# Altium schematic symbol library Integrated circuits.SchLib: 32 symbols (part 1 of 2)
Pins are listed as number, name and electrical type; pins without a type are passive.

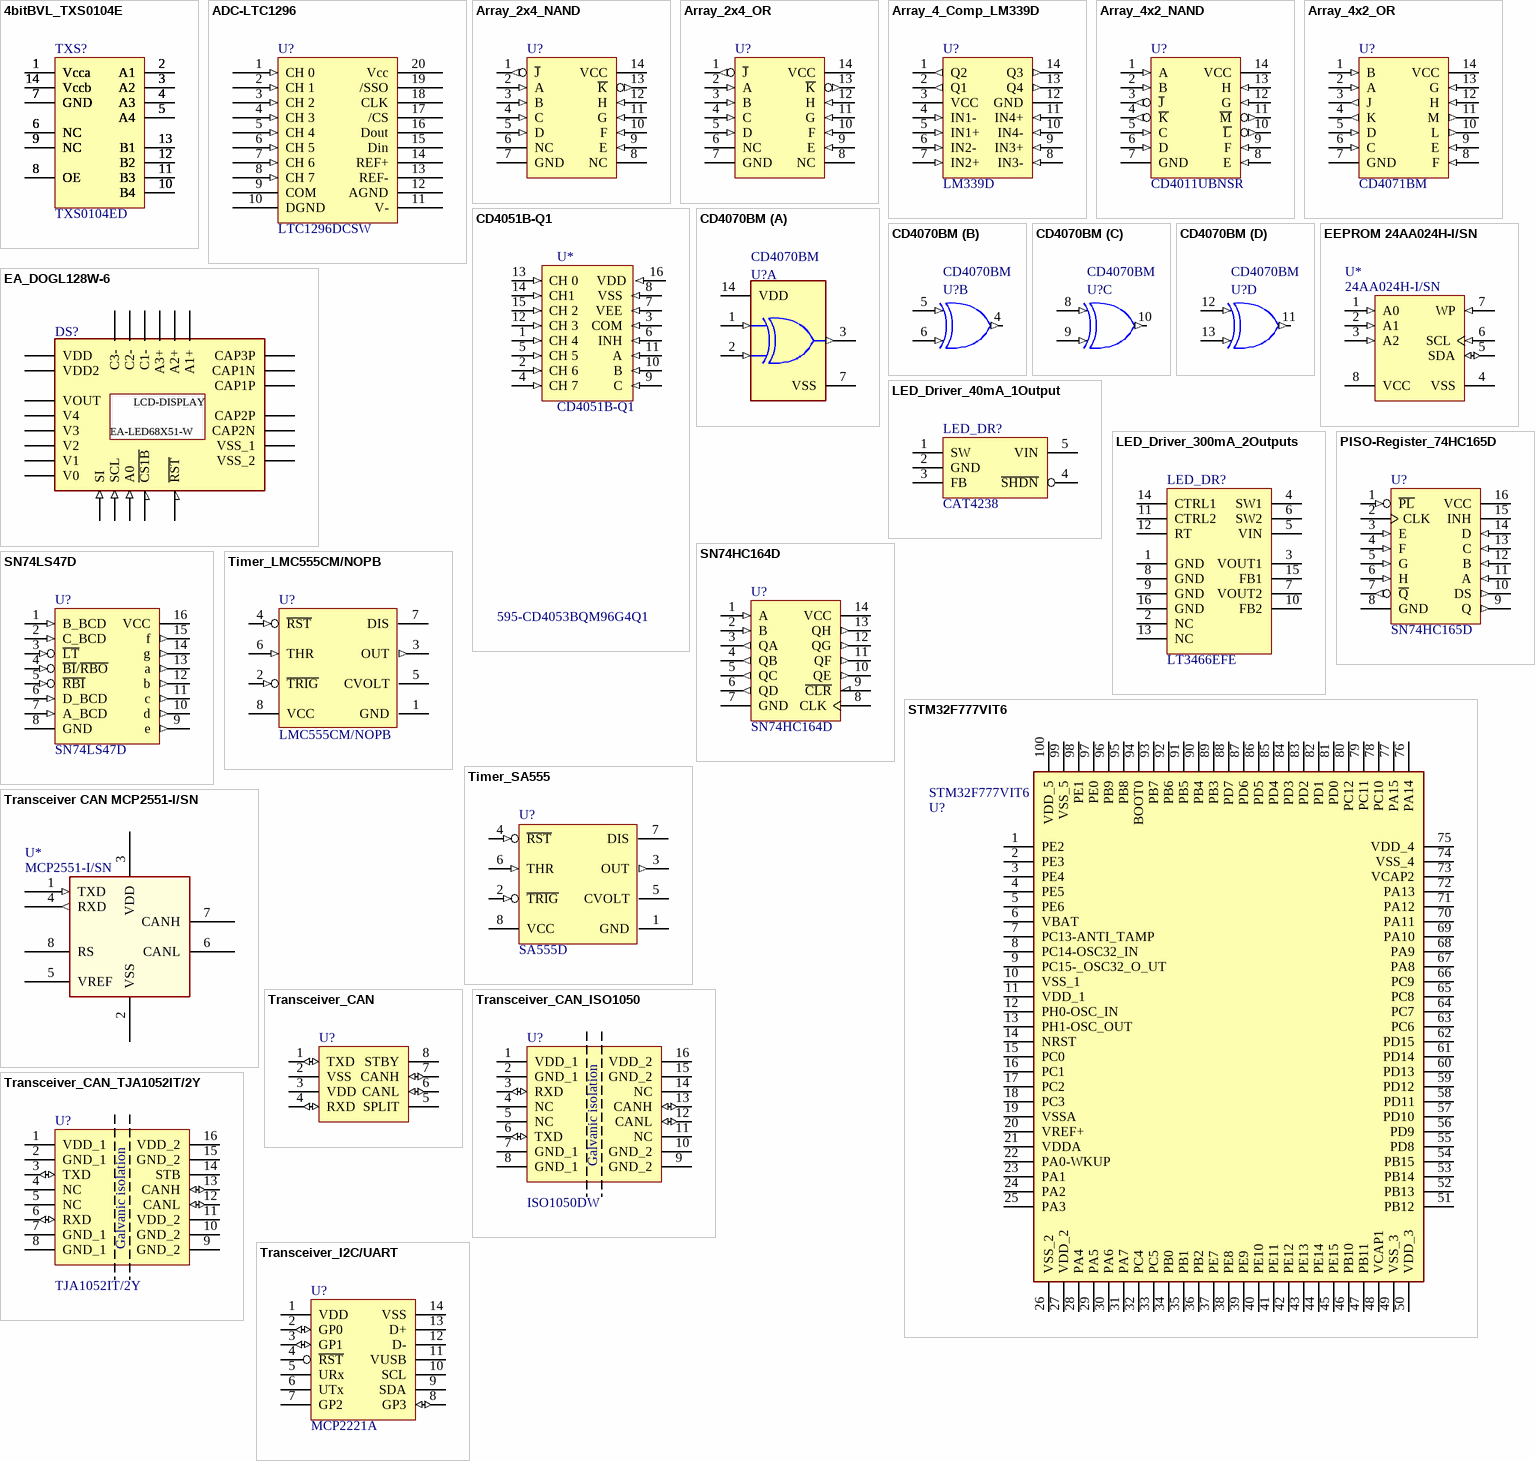
[diagram p0: symbols 4bitBVL_TXS0104E to Transceiver_I2C/UART]

## 4bitBVL_TXS0104E
designator TXS?, comment Manufacturer Part Number 1: TXS0104ED  (hidden comment: TXS0104E)
4-Bit Bidirectional Voltage-Level Shifter for Open-Drain and Push-Pull Applications 14-SOIC -40 to 85; Manufacturer 1: Texas Instruments; Data Rate: 24Mbps; Number of Channels: 4; Propagation Delay: 260ns; Min Supply Voltage: 1.65V; Max Supply Voltage: 5.5V; Logic Function: Translator; High Level Output Current: -20uA; Low Level Output Current: 1mA; Quiescent Current: 14.4uA; Nominal Supply Current: 12uA; Number of Circuits: 1; .Creator: AC; Supplier 1: Digi-Key; RoHS: Yes; Category: Voltage Level Shifters; Stock 1: 9570; Pricing 1: 1=1,54000, 10=1,37600, 25=1,30600, 100=1,07270, 250=1,00276, 500=0,88616, 1000=0,77000 (USD); Mount: Surface Mount; Case/Package: SOIC; Number of Pins: 14; Weight: 0.004564oz; Min Operating Temperature: -40°C; Max Operating Temperature: 85°C; Packaging: Rail/Tube; Package Quantity: 50; Number of Bits: 4; Turn-On Delay Time: 260ns; Output Type: Voltage; Series: -; Number of Inputs: 4; Output Current: 1mA; Length: 8.65mm; Width: 3.91mm; Height: 1.58mm; Radiation Hardening: No; Lead Free: Lead Free; RoHS Compliant: Yes; REACH SVHC: No SVHC; ComponentLink1URL: https://datasheet.ciiva.com/1628/txs0104e-1628720.pdf?src-supplier=Newark; ComponentLink1Description: https://datasheet.ciiva.com/1628/txs0104e-1628720.pdf?src-supplier=Newark; ComponentLink2URL: https://datasheet.ciiva.com/15096/getdatasheetpartid-226007-15096240.pdf?src-supplier=Verical; ComponentLink2Description: https://datasheet.ciiva.com/15096/getdatasheetpartid-226007-15096240.pdf?src-supplier=Verical; ComponentLink3URL: https://datasheet.ciiva.com/41455/001017332-da-01-en-ic-4bit-transltr-txs0104ed-soic-14-tid-41455684.pdf?src-supplier=Conrad; ComponentLink3Description: https://datasheet.ciiva.com/41455/001017332-da-01-en-ic-4bit-transltr-txs0104ed-soic-14-tid-41455684.pdf?src-supplier=Conrad; ComponentLink4URL: https://datasheet.ciiva.com/1508/1811230-1508823.pdf?src-supplier=Element14; ComponentLink4Description: https://datasheet.ciiva.com/1508/1811230-1508823.pdf?src-supplier=Element14; ComponentLink5URL: https://datasheet.ciiva.com/6615/txs0104e-6615001.pdf?src-supplier=Digi-Key; ComponentLink5Description: https://datasheet.ciiva.com/6615/txs0104e-6615001.pdf?src-supplier=Digi-Key; Supplier Part Number 1: 296-34699-5-ND; ComponentLink6Description: RS uk; ComponentLink6URL: https://uk.rs-online.com/web/p/translator-ics/9236848; .PCBcheck: *; .SCHcheck: *
footprint 4bitBVL_TXS0104E (SOP, 14-Leads, Body 8,65x3,90mm, Pitch 1,27mm, IPC Medium Density)
pins: 1 Vcca, 1 Vcca, 1 Vcca, 1 Vcca, 1 Vcca, 1 Vcca, 1 Vcca, 1 Vcca, 2 A1, 2 A1, 2 A1, 2 A1, 2 A1, 2 A1, 2 A1, 2 A1, 3 A2, 3 A2, 3 A2, 3 A2, 3 A2, 3 A2, 3 A2, 3 A2, 4 A3, 4 A3, 4 A3, 4 A3, 4 A3, 4 A3, 4 A3, 4 A3, 5 A4, 5 A4, 5 A4, 5 A4, 5 A4, 5 A4, 5 A4, 5 A4, 6 NC, 6 NC, 6 NC, 6 NC, 6 NC, 6 NC, 6 NC, 6 NC, 7 GND, 7 GND, 7 GND, 7 GND, 7 GND, 7 GND, 7 GND, 7 GND, 8 OE, 8 OE, 8 OE, 8 OE, 8 OE, 8 OE, 8 OE, 8 OE, 9 NC, 9 NC, 9 NC, 9 NC, 9 NC, 9 NC, 9 NC, 9 NC, 10 B4, 10 B4, 10 B4, 10 B4, 10 B4, 10 B4, 10 B4, 10 B4, 11 B3, 11 B3, 11 B3, 11 B3, 11 B3, 11 B3, 11 B3, 11 B3, 12 B2, 12 B2, 12 B2, 12 B2, 12 B2, 12 B2, 12 B2, 12 B2, 13 B1, 13 B1, 13 B1, 13 B1, 13 B1, 13 B1, 13 B1, 13 B1, 14 Vccb, 14 Vccb, 14 Vccb, 14 Vccb, 14 Vccb, 14 Vccb, 14 Vccb, 14 Vccb

## ADC-LTC1296
designator U?, comment Manufacturer Part Number 1: LTC1296DCSW  (hidden comment: LTC1296)
8-Channel Single ADC SAR 46.5ksps 12-bit Serial 20-Pin SOIC W; Manufacturer 1: Analog Devices / Linear Technology; Interface: Serial,Parallel; Sampling Rate: 46500S/s; Resolution: 12b; Supply Type: Dual; Number of Bits: 12; Max Supply Voltage: 12V; Dual Supply Voltage: 5V; Number of Elements: 1; Polarity: Bipolar,Unipolar; Power Dissipation: 500mW; Integral Nonlinearity (INL): 0.75LSB; .Creator: DR; ComponentLink1Description: Datasheet; ComponentLink2Description: Where buy it; Supplier 1: Newark; RoHS: No; Category: Analog to Digital Converters (ADCs); Mount: Surface Mount; Case/Package: SOIC; Number of Pins: 20; Min Operating Temperature: 0°C; Max Operating Temperature: 70°C; Package Quantity: 38; Packaging: Rail/Tube; Operating Supply Voltage: 5V; Lead Free: Contains Lead; RoHS Compliant: No; ComponentLink3URL: https://datasheet.ciiva.com/1250/3526-1250235.pdf?src-supplier=Digi-Key; ComponentLink3Description: https://datasheet.ciiva.com/1250/3526-1250235.pdf?src-supplier=Digi-Key; Supplier Part Number 1: 56M0212
footprint ADC_LTC1296 (SOIC, 20-Leads, Body 13,30x7,49mm, Pitch 1,27mm, IPC Medium Density)
pins: 1 CH 0 (in), 2 CH 1 (in), 3 CH 2 (in), 4 CH 3 (in), 5 CH 4 (in), 6 CH 5 (in), 7 CH 6 (in), 8 CH 7 (in), 9 COM, 10 DGND, 11 V-, 12 AGND, 13 REF-, 14 REF+, 15 Din, 16 Dout, 17 /CS, 18 CLK, 19 /SSO, 20 Vcc

## Array_2x4_NAND
designator U?, comment CD4012BM96  (value not drawn)
2-ch, 4-input, 3-V to 18-V NAND gates 14-SOIC -55 to 125; Manufacturer 1: Texas Instruments; Output Current: 6.8mA; Number of Inputs: 4; Propagation Delay: 90ns; Number of Elements: 2; Max Supply Voltage: 18V; Min Supply Voltage: 3V; Number of Outputs: 1; Quiescent Current: 5uA; High Level Output Current: 3.4mA; Turn-On Delay Time: 250ns; Schmitt Trigger Input: No; Supplier 1: Digi-Key; Manufacturer Part Number 1: CD4012BM96; RoHS: Yes; Category: Logic Gates; Stock 1: 5313; Pricing 1: 1=0,66000, 10=0,56800, 25=0,53040, 100=0,42440, 250=0,39412, 500=0,33348, 1000=0,25769 (USD); Mount: Surface Mount; Case/Package: SOIC; Number of Pins: 14; Weight: 0.004564oz; Contact Plating: Gold; Min Operating Temperature: -55°C; Max Operating Temperature: 125°C; Packaging: Tape and Reel; Package Quantity: 1; Logic Function: NAND GATE; Number of Circuits: 2; Low Level Output Current: 3.4mA; Number of Gates: 2; Number of Input Lines: 4; Number of Output Lines: 1; Number of Bits: 2; Series: 4000B; Technology: CMOS; Length: 8.65mm; Width: 3.91mm; Height: 1.58mm; Radiation Hardening: No; Lead Free: Lead Free; RoHS Compliant: Yes; Reach SVHC Compliant: Yes; ComponentLink1URL: https://datasheet.ciiva.com/1865/cd4011b-1865256.pdf?src-supplier=Digi-Key; ComponentLink1Description: https://datasheet.ciiva.com/1865/cd4011b-1865256.pdf?src-supplier=Digi-Key; ComponentLink2URL: https://datasheet.ciiva.com/1865/cd4011b-1865255.pdf?src-supplier=Digi-Key; ComponentLink2Description: https://datasheet.ciiva.com/1865/cd4011b-1865255.pdf?src-supplier=Digi-Key; ComponentLink3URL: https://datasheet.ciiva.com/1865/cd4011b-1865257.pdf?src-supplier=Digi-Key; ComponentLink3Description: https://datasheet.ciiva.com/1865/cd4011b-1865257.pdf?src-supplier=Digi-Key; ComponentLink4URL: https://datasheet.ciiva.com/14307/cd4023b-14307967.pdf?src-supplier=Avnet; ComponentLink4Description: https://datasheet.ciiva.com/14307/cd4023b-14307967.pdf?src-supplier=Avnet; Supplier Part Number 1: 296-14246-1-ND
footprint ARRAY_4_NAND (SOIC, 14-Leads, Body 8,65x3,90mm, Pitch 1,27mm, IPC Medium Density)
pins: 1 ~{J} (out), 2 A (in), 3 B (in), 4 C (in), 5 D (in), 6 NC, 7 GND (power), 8 NC, 9 E (in), 10 F (in), 11 G (in), 12 H (in), 13 ~{K} (out), 14 VCC (power)

## Array_2x4_OR
designator U?, comment CD4072BM  (value not drawn)
2-ch, 4-input, 3-V to 18-V OR gates 14-SOIC -55 to 125; Manufacturer 1: Texas Instruments; Number of Outputs: 1; Max Supply Voltage: 18V; Min Supply Voltage: 3V; Logic Function: OR GATE; Output Current: 6.8mA; Number of Inputs: 4; Propagation Delay: 90ns; Number of Circuits: 2; Quiescent Current: 5uA; High Level Output Current: -4.2mA; Low Level Output Current: 4.2mA; Turn-On Delay Time: 120ns; Schmitt Trigger Input: No; Max Power Dissipation: 500mW; Supplier 1: Digi-Key; Manufacturer Part Number 1: CD4072BM; RoHS: Yes; Category: Logic Gates; Stock 1: 3590; Pricing 1: 1=1,37000, 10=1,22900, 25=1,16640, 100=0,95810, 250=0,89564, 500=0,79150, 1000=0,62487, 2500=0,58950 (USD); Mount: Surface Mount; Case/Package: SOIC; Number of Pins: 14; Weight: 0.004564oz; Contact Plating: Gold; Min Operating Temperature: -55°C; Max Operating Temperature: 125°C; Packaging: Rail/Tube; Package Quantity: 50; Number of Gates: 2; Number of Input Lines: 4; Number of Output Lines: 1; Number of Elements: 2; Series: 4000B; Technology: CMOS; Number of Bits: 2; Power Dissipation: 500mW; Length: 8.75mm; Width: 4mm; Height: 1.5mm; Radiation Hardening: No; Lead Free: Lead Free; RoHS Compliant: Yes; Reach SVHC Compliant: Yes; ComponentLink1URL: https://datasheet.ciiva.com/1866/cd4071b-1866640.pdf?src-supplier=Digi-Key; ComponentLink1Description: https://datasheet.ciiva.com/1866/cd4071b-1866640.pdf?src-supplier=Digi-Key; ComponentLink2URL: https://datasheet.ciiva.com/15090/getdatasheetpartid-50223-15090322.pdf?src-supplier=Verical; ComponentLink2Description: https://datasheet.ciiva.com/15090/getdatasheetpartid-50223-15090322.pdf?src-supplier=Verical; ComponentLink3URL: https://datasheet.ciiva.com/1508/1847354-1508182.pdf?src-supplier=Element14; ComponentLink3Description: https://datasheet.ciiva.com/1508/1847354-1508182.pdf?src-supplier=Element14; Supplier Part Number 1: 296-25954-5-ND
footprint ARRAY_4_OR (SOIC, 14-Leads, Body 8,65x3,90mm, Pitch 1,27mm, IPC Medium Density)
pins: 1 ~{J} (out), 2 A (in), 3 B (in), 4 C (in), 5 D (in), 6 NC, 7 GND (power), 8 NC, 9 E (in), 10 F (in), 11 G (in), 12 H (in), 13 ~{K} (out), 14 VCC (power)

## Array_4_Comp_LM339D
designator U?, comment LM339D
Comparator Quad ±18V/36V 14-Pin SOIC Tube; Manufacturer: Texas Instruments; Number of Channels: 4; Nominal Supply Current: 2mA; Output Current: 20mA; Quiescent Current: 2.5mA; Max Supply Voltage: 30V; Min Supply Voltage: 2V; Min Dual Supply Voltage: 1V; Max Dual Supply Voltage: 15V; Voltage Gain: 106.02dB; Max Supply Current: 500uA; Input Bias Current: 250nA; Output Current per Channel: 6mA; Input Offset Voltage (Vos): 5mV; Response Time: 0.3us; Output Type: TTL; Dual Supply Voltage: 9V; .Creator: DO; Supplier 1: Digi-Key; RoHS: Yes; Category: Amplifiers - Op Amps, Buffer, Instrumentation; Stock 1: 10834; Pricing 1: 1=0,93000, 10=0,83500, 25=0,79240, 100=0,65090, 250=0,60848, 500=0,53774, 1000=0,46725 (USD); Mount: Surface Mount; Case/Package: SOIC; Number of Pins: 14; Contact Plating: Gold; Weight: 0.004318oz; Min Operating Temperature: 0°C; Max Operating Temperature: 70°C; Packaging: Rail/Tube; Package Quantity: 50; Number of Elements: 4; Supply Current: 2mA; Technology: BIPOLAR; Max Input Current: 250nA; Series: LM339; Length: 8.65mm; Width: 3.91mm; Height: 1.58mm; Radiation Hardening: No; REACH SVHC: No SVHC; Lead Free: Lead Free; RoHS Compliant: Yes; ComponentLink1URL: https://datasheet.ciiva.com/15131/getdatasheetpartid-248452-15131099.pdf?src-supplier=Verical; ComponentLink1Description: https://datasheet.ciiva.com/15131/getdatasheetpartid-248452-15131099.pdf?src-supplier=Verical; ComponentLink2URL: https://datasheet.ciiva.com/1483/1831045-1483000.pdf?src-supplier=Element14; ComponentLink2Description: https://datasheet.ciiva.com/1483/1831045-1483000.pdf?src-supplier=Element14; ComponentLink3URL: https://datasheet.ciiva.com/1827/lm139a-1827534.pdf?src-supplier=Digi-Key; ComponentLink3Description: https://datasheet.ciiva.com/1827/lm139a-1827534.pdf?src-supplier=Digi-Key; ComponentLink4URL: https://datasheet.ciiva.com/2970/lm2901-2970484.pdf?src-supplier=Avnet; ComponentLink4Description: https://datasheet.ciiva.com/2970/lm2901-2970484.pdf?src-supplier=Avnet; ComponentLink5URL: https://datasheet.ciiva.com/48712/001010753-da-01-en-ic-quad-diff-comp-lm339d-soic-14-tid-48712470.pdf?src-supplier=Conrad; ComponentLink5Description: https://datasheet.ciiva.com/48712/001010753-da-01-en-ic-quad-diff-comp-lm339d-soic-14-tid-48712470.pdf?src-supplier=Conrad; Supplier Part Number 1: 296-1013-5-ND; ComponentLink6Description: Where buy it; ComponentLink6URL: https://es.rs-online.com/web/p/comparadores/0858411; Manufacturer Part Number: LM339D
footprint Array_4_Amp_LM339D (SOIC, 14-Leads, Body 8,65x3,90mm, Pitch 1,27mm, IPC Medium Density)
pins: 1 Q2 (out), 2 Q1 (out), 3 VCC (power), 4 IN1- (in), 5 IN1+ (in), 6 IN2- (in), 7 IN2+ (in), 8 IN3- (in), 9 IN3+ (in), 10 IN4- (in), 11 IN4+ (in), 12 GND (power), 13 Q4 (out), 14 Q3 (out)

## Array_4x2_NAND
designator U?, comment Manufacturer Part Number: CD4011UBNSR  (hidden comment: CD4011UBSNR)
CD4011UB Cmos Quad 2-INPUT Nand; Manufacturer: Texas Instruments; Logic Function: NAND GATE; Min Supply Voltage: 3V; Max Supply Voltage: 18V; Number of Inputs: 2; Propagation Delay: 50ns; Number of Outputs: 1; Number of Circuits: 4; Quiescent Current: 5uA; High Level Output Current: 3.4mA; Output Current: 6.8mA; Turn-On Delay Time: 120ns; .Creator: DO; Supplier 1: Digi-Key; RoHS: Yes; Category: Logic Gates; Stock 1: 964; Pricing 1: 1=0,67000, 10=0,59100, 25=0,55520, 100=0,45320, 250=0,42096, 500=0,35828, 1000=0,29575 (USD); Mount: Surface Mount; Case/Package: SOP; Number of Pins: 14; Weight: 0.007348oz; Contact Plating: Gold; Min Operating Temperature: -55°C; Max Operating Temperature: 125°C; Package Quantity: 1; Packaging: Tape and Reel; Low Level Output Current: 3.4mA; Number of Gates: 4; Number of Input Lines: 2; Number of Output Lines: 1; Number of Elements: 4; Series: 4000B; Technology: CMOS; Number of Bits: 4; Lead Free: Lead Free; RoHS Compliant: Yes; ComponentLink1URL: https://datasheet.ciiva.com/6621/cd4011ub-6621174.pdf?src-supplier=Digi-Key; ComponentLink1Description: https://datasheet.ciiva.com/6621/cd4011ub-6621174.pdf?src-supplier=Digi-Key; ComponentLink2URL: https://datasheet.ciiva.com/6621/cd4011ub-6621175.pdf?src-supplier=Digi-Key; ComponentLink2Description: https://datasheet.ciiva.com/6621/cd4011ub-6621175.pdf?src-supplier=Digi-Key; ComponentLink3URL: https://datasheet.ciiva.com/14307/cd4011ub-mil-14307943.pdf?src-supplier=Avnet; ComponentLink3Description: https://datasheet.ciiva.com/14307/cd4011ub-mil-14307943.pdf?src-supplier=Avnet; ComponentLink4URL: https://datasheet.ciiva.com/6621/cd4011ub-6621176.pdf?src-supplier=Digi-Key; ComponentLink4Description: https://datasheet.ciiva.com/6621/cd4011ub-6621176.pdf?src-supplier=Digi-Key; Supplier Part Number 1: 296-31485-1-ND; ComponentLink5Description: Where buy it; ComponentLink5URL: https://www.digikey.es/es/products/detail/texas-instruments/CD4011UBNSR/1690702?s=N4IgTCBcDaIMIBEAsAGAjGgqgIQHIGUAlAAhAF0BfIA
footprint ARRAY_4_NAND (SOIC, 14-Leads, Body 8,65x3,90mm, Pitch 1,27mm, IPC Medium Density)
pins: 1 A (in), 2 B (in), 3 ~{J} (out), 4 ~{K} (out), 5 C (in), 6 D (in), 7 GND (power), 8 E (in), 9 F (in), 10 ~{L} (out), 11 ~{M} (out), 12 G (in), 13 H (in), 14 VCC (power)

## Array_4x2_OR
designator U?, comment CD4071BM
4-ch, 2-input, 3-V to 18-V OR gates 14-SOIC -55 to 125; Manufacturer: Texas Instruments; Propagation Delay: 90ns; Max Supply Voltage: 18V; Min Supply Voltage: 3V; Number of Inputs: 2; Number of Outputs: 1; Logic Function: OR GATE; Output Current: 6.8mA; Number of Gates: 4; Low Level Output Current: 4.2mA; Quiescent Current: 5uA; High Level Output Current: -4.2mA; Input Capacitance: 5pF; Power Dissipation: 500mW; .Creator: DO; Supplier 1: Digi-Key; RoHS: Yes; Category: Logic Gates; Stock 1: 4154; Pricing 1: 1=1,26000, 10=1,12600, 25=1,06840, 100=0,87770, 250=0,82044, 500=0,72504, 1000=0,63000 (USD); Mount: Surface Mount; Case/Package: SOIC; Number of Pins: 14; Weight: 0.004564oz; Contact Plating: Gold; Min Operating Temperature: -55°C; Max Operating Temperature: 125°C; Packaging: Rail/Tube; Package Quantity: 50; Number of Input Lines: 2; Number of Output Lines: 1; Number of Circuits: 4; Number of Elements: 4; Turn-On Delay Time: 90ns; Number of Bits: 4; Radiation Hardening: No; Lead Free: Lead Free; RoHS Compliant: Yes; REACH SVHC: No SVHC; ComponentLink1URL: https://datasheet.ciiva.com/1508/1852948-1508179.pdf?src-supplier=Element14; ComponentLink1Description: https://datasheet.ciiva.com/1508/1852948-1508179.pdf?src-supplier=Element14; ComponentLink2URL: https://datasheet.ciiva.com/1866/cd4071b-1866594.pdf?src-supplier=Digi-Key; ComponentLink2Description: https://datasheet.ciiva.com/1866/cd4071b-1866594.pdf?src-supplier=Digi-Key; ComponentLink3URL: https://datasheet.ciiva.com/41455/001015512-da-01-en-ic-2-input-or-gate-cd4071bm-soic-14-tid-41455429.pdf?src-supplier=Conrad; ComponentLink3Description: https://datasheet.ciiva.com/41455/001015512-da-01-en-ic-2-input-or-gate-cd4071bm-soic-14-tid-41455429.pdf?src-supplier=Conrad; Supplier Part Number 1: 296-14278-5-ND; ComponentLink4Description: Where buy it; ComponentLink4URL: https://www.mouser.es/ProductDetail/Texas-Instruments/CD4071BM?qs=D5pVkbrsqqJ%252Bo9qTeo0l1g%3D%3D; Manufacturer Part Number: CD4071BM
footprint Array_4_OR (SOIC, 14-Leads, Body 8,65x3,90mm, Pitch 1,27mm, IPC Medium Density)
pins: 1 B (in), 2 A (in), 3 J (out), 4 K (out), 5 D (in), 6 C (in), 7 GND (power), 8 F (in), 9 E (in), 10 L (out), 11 M (out), 12 H (in), 13 G (in), 14 VCC (power)

## CD4051B-Q1
designator U*  Supplier Part Number 1: 595-CD4053BQM96G4Q1
CD4053B-Q1 Automotive Cmos Tripl; Manufacturer: Texas Instruments; Manufacturer Part Number: CD4053BQM96G4Q1; Min Supply Voltage: 5V; Max Supply Voltage: 20V; Number of Channels: 3; Bandwidth: 30MHz; Propagation Delay: 20ns; Number of Inputs: 6; Min Dual Supply Voltage: 2.5V; Max Dual Supply Voltage: 10V; Operating Supply Current: 80nA; Number of Bits: 2; Supplier 1: Mouser; RoHS: Yes; Category: Interface ICs; Stock 1: 7075; Pricing 1: 1=0,75, 10=0,617, 50=0,617, 100=0,468, 1000=0,319, 10000=0,258 (USD); Mounting Technology: Surface Mount; Case/Package: SOIC; Pins: 16; Weight: 0.004998oz; Contact Plating: Gold; Min Operating Temperature: -40°C; Max Operating Temperature: 125°C; Packaging: Tape and Reel; Package Quantity: 2500; Series: Automotive, AEC-Q100; Number of Outputs: 3; Number of Circuits: 3; -3db Bandwidth: 30MHz; Lead Free: Lead Free; RoHS Compliant: Yes; ComponentLink1URL: https://datasheet.ciiva.com/1671/cd4053b-q1-1671196.pdf?src-supplier=Digi-Key; ComponentLink1Description: https://datasheet.ciiva.com/1671/cd4053b-q1-1671196.pdf?src-supplier=Digi-Key; ComponentLink2URL: https://datasheet.ciiva.com/1671/cd4053b-q1-1671195.pdf?src-supplier=Digi-Key; ComponentLink2Description: https://datasheet.ciiva.com/1671/cd4053b-q1-1671195.pdf?src-supplier=Digi-Key; ComponentLink3URL: https://datasheet.ciiva.com/1671/cd4053b-q1-1671197.pdf?src-supplier=Digi-Key; ComponentLink3Description: https://datasheet.ciiva.com/1671/cd4053b-q1-1671197.pdf?src-supplier=Digi-Key; ComponentLink4URL: https://datasheet.ciiva.com/14435/cd4053b-q1-14435722.pdf?src-supplier=Avnet; ComponentLink4Description: https://datasheet.ciiva.com/14435/cd4053b-q1-14435722.pdf?src-supplier=Avnet
footprint CD4051B-Q1
pins: 1 CH 4 (in), 2 CH 6 (in), 3 COM (in), 4 CH 7 (in), 5 CH 5 (in), 6 INH (in), 7 VEE (in), 8 VSS (in), 9 C (in), 10 B (in), 11 A (in), 12 CH 3 (in), 13 CH 0 (in), 14 CH1  (in), 15 CH 2 (in), 16 VDD (in)

## CD4070BM
designator U?
IC GATE XOR 4CH 2-INP 14SOIC; Number of Inputs: 2; Low Level Output Current: 4.2mA; Input Capacitance: 5pF; Min Supply Voltage: 3V; Number of Output Lines: 1; Logic Function: XOR GATE; Number of Circuits: 4; Propagation Delay: 100ns; Output Current: 6.8mA; Max Supply Voltage: 18V; Quiescent Current: 5uA; High Level Output Current: -4.2mA; Schmitt Trigger Input: No; RoHS Compliant: Yes; Number of Input Lines: 2; Package Quantity: 50; Length: 8.65mm; Contact Plating: Gold; Packaging: Rail/Tube; Max Operating Temperature: 125°C; Lead Free: Lead Free; Width: 3.91mm; Weight: 0.004564oz; Min Operating Temperature: -55°C; Height: 1.58mm; Number of Gates: 4; Number of Outputs: 1; Mount: Surface Mount; Radiation Hardening: No; Number of Bits: 4; REACH SVHC: No SVHC; Case/Package: SOIC; Number of Elements: 4; Number of Pins: 14; Turn-On Delay Time: 100ns
footprint FP-D0014A-IPC_B
footprint FP-D0014A-IPC_C
footprint FP-D0014A-MFG
footprint FP-D0014A-IPC_A
part A pins: 1 A (in), 2 B (in), 3 J (out), 7 VSS (power), 14 VDD (power)
part B pins: 4 K (out), 5 C (in), 6 D (in)
part C pins: 8 E (in), 9 F (in), 10 L (out)
part D pins: 11 M (out), 12 G (in), 13 H (in)

## EA_DOGL128W-6
designator DS?  (value not drawn)
LCD Graphic Display Modules & Accessories FSTN (+) Transflectv White Background; Manufacturer_Name: Electronic Assembly GmbH; Manufacturer_Part_Number: EA DOGL128W-6; Manufacturer: Electronic Assembly; Manufacturer Part Number: EADOGL128W-6; Nominal Supply Current: 270uA; Resolution (height): 64pixel; Resolution (width): 128pixel; Interface: SPI; Viewing Area (width): 64mm; Viewing Area (height): 35mm; .Creator: GP; Height: 2.8mm; Category: Display; ComponentLink1Description: Datasheet; ComponentLink1URL: http://www.lcd-module.com/eng/pdf/grafik/dogl128-6e.pdf; ComponentLink2Description: Where buy it; ComponentLink2URL: *; Supplier 1: Digi-Key; RoHS: No; Min Operating Temperature: -20°C; Max Operating Temperature: 70°C; Package Quantity: 16; Illumination Color: White; Background Color: White; Width: 67.8mm; ComponentLink3URL: https://datasheet.ciiva.com/14100/dogl128-6-eng-tds-14100350.pdf?src-supplier=Distrelec; ComponentLink3Description: https://datasheet.ciiva.com/14100/dogl128-6-eng-tds-14100350.pdf?src-supplier=Distrelec; Supplier Part Number 1: 1481-1058-ND
footprint EA_DOGL128W-6
pins: 1 A1+, 2 A2+, 3 A3+, 18 C1-, 19 C2-, 20 C3-, 21 V0, 22 V1, 23 V2, 24 V3, 25 V4, 26 VSS_1 (power), 27 CAP2N, 28 CAP2P, 29 CAP1P, 30 CAP1N, 31 CAP3P, 32 VOUT, 33 VSS_2 (power), 34 VDD2 (power), 35 VDD (power), 36 SI (in), 37 SCL (in), 38 A0 (in), 39 ~{RST}, 40 ~{CS1B}
text: LCD-DISPLAY; EA-LED68X51-W

## EEPROM 24AA024H-I/SN
designator U*, comment 24AA024H-I/SN
2Kb I2C Serial EEPROM with Address Inputs and Half-Array Write Protection
footprint SOIC-SN8_N (SOIC, 8-Leads, Body 4.9x3.9mm, Pitch 1.27mm, IPC Medium Density)
pins: 1 A0 (in), 2 A1 (in), 3 A2 (in), 4 VSS (power), 5 SDA (io), 6 SCL (in), 7 WP (in), 8 VCC (power)

## LED_Driver_40mA_1Output
designator LED_DR?, comment CAT4238
CAT4238 Series 20 mA 5.5 V 1.3 MHz 10 LED Boost Converter LED Driver - SOT-23-5; Manufacturer: ON Semiconductor; Manufacturer Part Number: CAT4238TD-GT3; Max Supply Voltage: 5.5V; Min Supply Voltage: 2.8V; Nominal Supply Current: 1.5mA; Number of Outputs: 1; Output Current: 450mA; Output Voltage: 38V; Frequency: 1.3MHz; Efficiency: 87%; Min Input Voltage: 2V; Switching Frequency: 1MHz; High Level Output Current: 40mA; Number of Segments: 10; Min Output Voltage: 0V; Current Rating: 30mA; .Creator: GP; Supplier 1: Digi-Key; RoHS: Yes; Category: Embedded Processors and Controllers; Stock 1: 20984; Pricing 1: 1=1,40000, 10=1,25100, 25=1,18760, 100=0,97540, 250=0,91184, 500=0,80580, 1000=0,70018 (USD); Case/Package: TSOT; Number of Pins: 5; Contact Plating: Gold; Min Operating Temperature: -40°C; Max Operating Temperature: 85°C; Max Input Voltage: 5.5V; Package Quantity: 1; Packaging: Tape and Reel; Max Supply Current: 1.5mA; Output Current per Channel: 40mA; Termination: SMD/SMT; Max Output Voltage: 38V; Topology: Boost; Series: -; Supply Current: 1.5mA; Switching Frequency-Max: 1.3MHz; Radiation Hardening: No; REACH SVHC: No SVHC; Lead Free: Lead Free; Halogen Free: Halogen Free; ComponentLink14URL: https://www.mouser.es/datasheet/2/308/1/CAT4238_D-2310289.pdf; ComponentLink14Description: Datasheet; Supplier Part Number 1: CAT4238TD-GT3CT-ND; ComponentLink15Description: Where buy it; ComponentLink15URL: https://www.mouser.es/ProductDetail/onsemi/CAT4238TD-GT3?qs=9dFQwQorgSxpbLptXYtgxg%3D%3D
footprint LED_Driver_40mA_1Output (SOT23, 5-Leads, Body 2,90x2,80mm, Pitch 0,95mm, IPC Low Density)
pins: 1 SW, 2 GND, 3 FB, 4 ~{SHDN}, 5 VIN

## LED_Driver_300mA_2Outputs
designator LED_DR?, comment Supplier Part Number 1: LT3466EFE  (hidden comment: LT3466)
LT3466 - Dual Full Function White LED Step-Up Converter with Built-In Schottky Diodes; Manufacturer: Analog Devices / Linear Technology; Min Input Voltage: 2.7V; Topology: Boost; Max Supply Voltage: 24V; Number of Segments: 20; .Creator: GP; Supplier 1: Arrow Electronics; Manufacturer Part Number: LT3466EFE; RoHS: No; Number of Pins: 16; Min Operating Temperature: -40°C; Max Operating Temperature: 85°C; Min Supply Voltage: 2.7V; RoHS Compliant: No; ComponentLink1URL: https://eu.mouser.com/datasheet/2/609/3466fa-1271503.pdf; ComponentLink1Description: Datasheet; ComponentLink2Description: Where buy it; ComponentLink2URL: *
footprint LED_Driver_300mA_2Outputs (TSOP, 16-Leads, Body 5,00x4,40mm, Pitch 0,65mm, Thermal Pad 3,58x2,94mm, IPC Low Density)
pins: 1 GND (power), 2 NC, 3 VOUT1, 4 SW1, 5 VIN, 6 SW2, 7 VOUT2, 8 GND (power), 9 GND (power), 10 FB2, 11 CTRL2, 12 RT, 13 NC, 14 CTRL1, 15 FB1, 16 GND (power)

## PISO-Register_74HC165D
designator U?, comment Manufacturer Part Number: SN74HC165D  (hidden comment: 74HC165D)
SN74HC165 8-BIT Parallel-load Sh; Manufacturer: Texas Instruments; Number of Elements: 1; Logic Function: Shift Register,OR GATE; Number of Bits per Element: 8; Max Supply Voltage: 6V; Min Supply Voltage: 2V; Propagation Delay: 26ns; Operating Supply Voltage: 5V; Direction: Unidirectional; Turn-On Delay Time: 190ns; Number of Input Lines: 9; .Creator: DO; ComponentLink3Description: Where buy it; ComponentLink3URL: https://www.digikey.es/es/products/detail/toshiba-semiconductor-and-storage/74HC165D/6198929; Supplier 1: Digi-Key; RoHS: Yes; Category: Shift Registers; Pricing 1: 1=1,16000, 10=1,03500, 25=0,98240, 100=0,80700, 250=0,75436, 500=0,66664, 1000=0,57925 (USD); Mount: Surface Mount; Case/Package: SOIC; Number of Pins: 16; Weight: 0.004998oz; Min Operating Temperature: -40°C; Max Operating Temperature: 125°C; Packaging: Rail/Tube; Package Quantity: 40; Number of Circuits: 1; Number of Bits: 8; Number of Output Lines: 1; Series: 74HC; Technology: CMOS; Length: 9.9mm; Width: 3.91mm; Height: 1.58mm; Radiation Hardening: No; Lead Free: Lead Free; RoHS Compliant: Yes; REACH SVHC: No SVHC; ComponentLink1URL: https://datasheet.ciiva.com/15093/getdatasheetpartid-139008-15093441.pdf?src-supplier=Verical; ComponentLink1Description: https://datasheet.ciiva.com/15093/getdatasheetpartid-139008-15093441.pdf?src-supplier=Verical; ComponentLink2URL: https://datasheet.ciiva.com/1886/sn74hc165-1886342.pdf?src-supplier=Digi-Key; ComponentLink2Description: https://datasheet.ciiva.com/1886/sn74hc165-1886342.pdf?src-supplier=Digi-Key; ComponentLink4URL: https://datasheet.ciiva.com/14295/sn54hc165-14295048.pdf?src-supplier=Avnet; ComponentLink4Description: https://datasheet.ciiva.com/14295/sn54hc165-14295048.pdf?src-supplier=Avnet; ComponentLink5URL: https://datasheet.ciiva.com/26210/sn54hc165-26210137.pdf?src-supplier=Avnet+Europe; ComponentLink5Description: https://datasheet.ciiva.com/26210/sn54hc165-26210137.pdf?src-supplier=Avnet+Europe; ComponentLink6URL: https://datasheet.ciiva.com/1509/1831348-1509467.pdf?src-supplier=Element14; ComponentLink6Description: https://datasheet.ciiva.com/1509/1831348-1509467.pdf?src-supplier=Element14; Supplier Part Number 1: 296-8249-5-ND
footprint PISO-Register_74HC165D (SOIC, 16-Leads, Body 9,95x3,90mm, Pitch 1,27mm, IPC Medium Density)
pins: 1 ~{PL} (in), 2 CLK, 3 E (in), 4 F (in), 5 G (in), 6 H (in), 7 ~{Q} (out), 8 GND (power), 9 Q (out), 10 DS (out), 11 A (in), 12 B (in), 13 C (in), 14 D (in), 15 INH, 16 VCC (power)

## SN74HC164D
designator U?
SN74HC164 8-BIT Parallel-out Ser; Manufacturer 1: Texas Instruments; Logic Function: Shift Register; Number of Elements: 1; Max Supply Voltage: 6V; Min Supply Voltage: 2V; Propagation Delay: 30ns; Number of Bits per Element: 8; Operating Supply Voltage: 5V; Direction: Unidirectional; Number of Input Lines: 2; Turn-On Delay Time: 255ns; .Creator: GP; Manufacturer Part Number 1: SN74HC164D; RoHS: Yes; Mount: SMD; Case/Package: SOIC; Number of Pins: 14; Min Operating Temperature: -40°C; Max Operating Temperature: 125°C; Packaging: Rail/Tube; Package Quantity: 50; Number of Circuits: 1; Number of Output Lines: 8; Number of Bits: 8; REACH SVHC: No SVHC; ComponentLink1URL: https://datasheet.ciiva.com/15093/getdatasheetpartid-81705-15093317.pdf?src-supplier=Verical; ComponentLink1Description: https://datasheet.ciiva.com/15093/getdatasheetpartid-81705-15093317.pdf?src-supplier=Verical; Category: Shift Register S/P; ComponentLink2Description: Where buy it; ComponentLink2URL: *; Supplier 1: Arrow Electronics; Manufacturer: Texas Instruments; Manufacturer Part Number: SN74HC164D; Stock 1: 244; Pricing 1: 1=1,13500, 10=1,01670, 25=0,95510, 100=0,78030, 250=0,72340, 500=0,63420, 1000=0,51160 (USD); Weight: 0.004318oz; Series: 74HC; Technology: CMOS; Length: 8.65mm; Width: 3.91mm; Height: 1.58mm; Radiation Hardening: No; Lead Free: Lead Free; RoHS Compliant: Yes; ComponentLink3URL: https://datasheet.ciiva.com/1632/sn74hc164-1632150.pdf?src-supplier=Newark; ComponentLink3Description: https://datasheet.ciiva.com/1632/sn74hc164-1632150.pdf?src-supplier=Newark; ComponentLink4URL: https://datasheet.ciiva.com/41456/001016674-da-01-en-ic-8bit-shft-reg-sn74hc164d-soic-14-tid-41456967.pdf?src-supplier=Conrad; ComponentLink4Description: https://datasheet.ciiva.com/41456/001016674-da-01-en-ic-8bit-shft-reg-sn74hc164d-soic-14-tid-41456967.pdf?src-supplier=Conrad; ComponentLink5URL: https://datasheet.ciiva.com/1509/1850934-1509462.pdf?src-supplier=Element14; ComponentLink5Description: https://datasheet.ciiva.com/1509/1850934-1509462.pdf?src-supplier=Element14; ComponentLink6URL: https://datasheet.ciiva.com/1509/1874575-1509559.pdf?src-supplier=Element14; ComponentLink6Description: https://datasheet.ciiva.com/1509/1874575-1509559.pdf?src-supplier=Element14; ComponentLink7URL: https://datasheet.ciiva.com/26210/sn54hc164-sp-26210135.pdf?src-supplier=Avnet+Europe; ComponentLink7Description: https://datasheet.ciiva.com/26210/sn54hc164-sp-26210135.pdf?src-supplier=Avnet+Europe; ComponentLink8URL: https://datasheet.ciiva.com/1886/sn74hc164-1886430.pdf?src-supplier=Digi-Key; ComponentLink8Description: https://datasheet.ciiva.com/1886/sn74hc164-1886430.pdf?src-supplier=Digi-Key; Supplier Part Number 1: SN74HC164D
footprint SN74HC164D (SOIC, 14-Leads, Body 8,65x3,90mm, Pitch 1,27mm, IPC Low Density)
pins: 1 A (in), 2 B (in), 3 QA (out), 4 QB (out), 5 QC (out), 6 QD (out), 7 GND (power), 8 CLK, 9 ~{CLR}, 10 QE (out), 11 QF (out), 12 QG (out), 13 QH (out), 14 VCC (power)

## SN74LS47D
designator U?
BCD-to-Seven-Segment Decoders/Drivers 16-SOIC; Manufacturer 1: Texas Instruments; Min Supply Voltage: 4.75V; Max Supply Voltage: 5.25V; Logic Function: Demultiplexer,Decoder; Operating Supply Voltage: 5V; Number of Outputs: 7; Low Level Output Current: 3.2mA; Polarity: Inverting; High Level Output Current: -50uA; Bandwidth: 35MHz; Propagation Delay: 100ns; Number of Elements: 1; Number of Inputs: 4; Operating Supply Current: 7mA; .Creator: GP; RoHS: Yes; Case/Package: SOIC D; Number of Pins: 16; Min Operating Temperature: 0°C; Max Operating Temperature: 70°C; Packaging: Rail/Tube; Number of Bits: 7; Max Input Voltage: 5.25V; Min Input Voltage: 4.75V; Number of Input Lines: 4; Number of Output Lines: 7; Turn-On Delay Time: 100ns; Number of Channels: 1; Number of Circuits: 1; Quiescent Current: 7mA; REACH SVHC: No SVHC; ComponentLink1URL: https://datasheet.ciiva.com/15092/getdatasheetpartid-251224-15092377.pdf?src-supplier=Verical; ComponentLink1Description: https://datasheet.ciiva.com/15092/getdatasheetpartid-251224-15092377.pdf?src-supplier=Verical; Category: BCD to 7seg; Mount: SMD; ComponentLink2Description: Where buy it; ComponentLink2URL: *; Supplier 1: Digi-Key; Manufacturer: Texas Instruments; Manufacturer Part Number: SN74LS47D; Stock 1: 416; Pricing 1: 1=1,74000, 10=1,56500, 25=1,47600, 100=1,25760, 250=1,18084, 500=1,03324, 1000=0,97475 (USD); Weight: 0.004998oz; Contact Plating: Gold; Package Quantity: 40; Length: 10mm; Width: 4mm; Height: 1.5mm; Radiation Hardening: No; RoHS Compliant: Yes; Lead Free: Lead Free; ComponentLink3URL: https://datasheet.ciiva.com/14134/sn7447a-eng-tds-14134267.pdf?src-supplier=Distrelec; ComponentLink3Description: https://datasheet.ciiva.com/14134/sn7447a-eng-tds-14134267.pdf?src-supplier=Distrelec; ComponentLink4URL: https://datasheet.ciiva.com/1507/1857076-1507297.pdf?src-supplier=Element14; ComponentLink4Description: https://datasheet.ciiva.com/1507/1857076-1507297.pdf?src-supplier=Element14; ComponentLink5URL: https://datasheet.ciiva.com/1940/sn7447a-1940924.pdf?src-supplier=Digi-Key; ComponentLink5Description: https://datasheet.ciiva.com/1940/sn7447a-1940924.pdf?src-supplier=Digi-Key; ComponentLink6URL: https://datasheet.ciiva.com/14294/sn74ls47-14294261.pdf?src-supplier=Avnet; ComponentLink6Description: https://datasheet.ciiva.com/14294/sn74ls47-14294261.pdf?src-supplier=Avnet; ComponentLink7URL: https://datasheet.ciiva.com/41462/001014503-da-01-en-ic-bcd-to-7-seg-de-sn74ls47d-soic-16-tid-41462358.pdf?src-supplier=Conrad; ComponentLink7Description: https://datasheet.ciiva.com/41462/001014503-da-01-en-ic-bcd-to-7-seg-de-sn74ls47d-soic-16-tid-41462358.pdf?src-supplier=Conrad; Supplier Part Number 1: 296-3711-5-ND; Manufacturer Part Number 1: SN74LS47D
footprint SN74LS47D (SOIC, 16-Leads, Body 9,90x3,90mm, Pitch 1,27mm, IPC Low Density)
pins: 1 B_BCD (in), 2 C_BCD (in), 3 ~{LT} (in), 4 ~{BI}/~{RBO} (in), 5 ~{RBI} (in), 6 D_BCD (in), 7 A_BCD (in), 8 GND (power), 9 e (out), 10 d (out), 11 c (out), 12 b (out), 13 a (out), 14 g (out), 15 f (out), 16 VCC (power)

## STM32F777VIT6
designator U?
ARM Microcontrollers - MCU 16/32-BITS MICROS; Manufacturer_Name: STMicroelectronics; Geometry.Height: 1.6mm; Mouser Part Number: 511-STM32F777VIT6; Mouser Price/Stock: https://www.mouser.co.uk/ProductDetail/STMicroelectronics/STM32F777VIT6?qs=qzCNEk%252BRr%252BbclRoyC9pexg%3D%3D; Manufacturer_Part_Number: STM32F777VIT6; Datasheet Link: https://www.st.com/resource/en/datasheet/stm32f777vi.pdf; Supplier 1: Mouser; Supplier Part Number 1: 511-STM32F777VIT6
footprint QFP50P1600X1600X160-100N
pins: 1 PE2, 2 PE3, 3 PE4, 4 PE5, 5 PE6, 6 VBAT, 7 PC13-ANTI_TAMP, 8 PC14-OSC32_IN, 9 PC15-_OSC32_O_UT, 10 VSS_1, 11 VDD_1, 12 PH0-OSC_IN, 13 PH1-OSC_OUT, 14 NRST, 15 PC0, 16 PC1, 17 PC2, 18 PC3, 19 VSSA, 20 VREF+, 21 VDDA, 22 PA0-WKUP, 23 PA1, 24 PA2, 25 PA3, 26 VSS_2, 27 VDD_2, 28 PA4, 29 PA5, 30 PA6, 31 PA7, 32 PC4, 33 PC5, 34 PB0, 35 PB1, 36 PB2, 37 PE7, 38 PE8, 39 PE9, 40 PE10, 41 PE11, 42 PE12, 43 PE13, 44 PE14, 45 PE15, 46 PB10, 47 PB11, 48 VCAP1, 49 VSS_3, 50 VDD_3, 51 PB12, 52 PB13, 53 PB14, 54 PB15, 55 PD8, 56 PD9, 57 PD10, 58 PD11, 59 PD12, 60 PD13, 61 PD14, 62 PD15, 63 PC6, 64 PC7, 65 PC8, 66 PC9, 67 PA8, 68 PA9, 69 PA10, 70 PA11, 71 PA12, 72 PA13, 73 VCAP2, 74 VSS_4, 75 VDD_4, 76 PA14, 77 PA15, 78 PC10, 79 PC11, 80 PC12, 81 PD0, 82 PD1, 83 PD2, 84 PD3, 85 PD4, 86 PD5, 87 PD6, 88 PD7, 89 PB3, 90 PB4, 91 PB5, 92 PB6, 93 PB7, 94 BOOT0, 95 PB8, 96 PB9, 97 PE0, 98 PE1, 99 VSS_5, 100 VDD_5

## Timer_LMC555CM/NOPB
designator U?, comment LMC555CM/NOPB
World’s smallest 555 timer with low power, high accuracy and a Fmax of 3MHz 8-SOIC -40 to 85; Manufacturer: TI National Semiconductor; Max Power Dissipation: 740mW; Number of Timers/Counters: 1; Operating Supply Current: 150uA; High Level Output Current: -10mA; Low Level Output Current: 50mA; Propagation Delay: 100ns; Max Supply Voltage: 15V; Min Supply Voltage: 2V; Nominal Supply Current: 50uA; Current Rating: 100uA; Output Current: 100mA; .Creator: DO; Supplier 1: Digi-Key; RoHS: Yes; Category: Timers and Oscillators; Pricing 1: 1=1,57000, 10=1,41000, 25=1,33040, 100=1,13340, 250=1,06424, 500=0,93120, 1000=0,87850 (USD); Mount: Surface Mount; Case/Package: SOIC; Number of Pins: 8; Contact Plating: Tin,Matte; Min Operating Temperature: -40°C; Max Operating Temperature: 125°C; Packaging: Rail/Tube; Frequency: 3MHz; Package Quantity: 95; Power Dissipation: 740mW; Turn-On Delay Time: 100ns; Quiescent Current: 50uA; Series: -; Length: 4.9mm; Width: 3.9mm; Height: 1.45mm; Radiation Hardening: No; REACH SVHC: No SVHC; Lead Free: Lead Free; RoHS Compliant: Yes; ComponentLink1URL: https://datasheet.ciiva.com/6668/lmc555-6668280.pdf?src-supplier=Digi-Key; ComponentLink1Description: https://datasheet.ciiva.com/6668/lmc555-6668280.pdf?src-supplier=Digi-Key; ComponentLink2URL: https://datasheet.ciiva.com/1139/1902741-1139436.pdf?src-supplier=Element14; ComponentLink2Description: https://datasheet.ciiva.com/1139/1902741-1139436.pdf?src-supplier=Element14; Supplier Part Number 1: LMC555CM/NOPB-ND; ComponentLink3Description: Where buy it; ComponentLink3URL: https://www.mouser.es/ProductDetail/Texas-Instruments/LMC555CM-NOPB?qs=QbsRYf82W3HD735GqlgKhg%3D%3D; Manufacturer Part Number: LMC555CM/NOPB
footprint Timer_LMC555CM/NOPB (SOIC, 8-Leads, Body 4,91x3,90mm, Pitch 1,27mm, IPC Medium Density)
pins: 1 GND, 2 ~{TRIG} (in), 3 OUT (out), 4 ~{RST} (in), 5 CVOLT, 6 THR (in), 7 DIS, 8 VCC

## Timer_SA555
designator U?, comment Manufacturer Part Number: SA555D  (hidden comment: SA555)
Precision timer for -55 to 85C operation 8-SOIC -40 to 85; Manufacturer: Texas Instruments; Frequency: 500kHz; Min Supply Voltage: 4.5V; Max Supply Voltage: 16V; Number of Timers/Counters: 1; Operating Supply Current: 10mA; High Level Output Current: -200mA; Low Level Output Current: 200mA; Quiescent Current: 15mA; Nominal Supply Current: 2mA; .Creator: DO; Supplier 1: Digi-Key; RoHS: Yes; Category: Timers and Oscillators; Stock 1: 1162; Pricing 1: 1=0,93000, 10=0,83500, 25=0,79240, 100=0,65090, 250=0,60848, 500=0,53774, 1000=0,46725 (USD); Mount: Surface Mount; Case/Package: SOIC; Number of Pins: 8; Weight: 0.002561oz; Contact Plating: Gold; Min Operating Temperature: -40°C; Max Operating Temperature: 85°C; Packaging: Rail/Tube; Package Quantity: 75; Length: 4.9mm; Width: 3.91mm; Height: 1.58mm; Radiation Hardening: No; Lead Free: Lead Free; RoHS Compliant: Yes; REACH SVHC: No SVHC; ComponentLink1URL: https://datasheet.ciiva.com/1147/na555-1147816.pdf?src-supplier=Newark; ComponentLink1Description: https://datasheet.ciiva.com/1147/na555-1147816.pdf?src-supplier=Newark; ComponentLink2URL: https://datasheet.ciiva.com/14094/ne555-series-eng-tds-14094951.pdf?src-supplier=Distrelec; ComponentLink2Description: https://datasheet.ciiva.com/14094/ne555-series-eng-tds-14094951.pdf?src-supplier=Distrelec; ComponentLink3URL: https://datasheet.ciiva.com/1233/sa555-1233455.pdf?src-supplier=Digi-Key; ComponentLink3Description: https://datasheet.ciiva.com/1233/sa555-1233455.pdf?src-supplier=Digi-Key; ComponentLink4URL: https://datasheet.ciiva.com/1139/1851962-1139987.pdf?src-supplier=Element14; ComponentLink4Description: https://datasheet.ciiva.com/1139/1851962-1139987.pdf?src-supplier=Element14; ComponentLink5URL: https://datasheet.ciiva.com/15152/getdatasheetpartid-75292-15152565.pdf?src-supplier=Verical; ComponentLink5Description: https://datasheet.ciiva.com/15152/getdatasheetpartid-75292-15152565.pdf?src-supplier=Verical; Supplier Part Number 1: 296-9681-5-ND; ComponentLink6Description: Where buy it; ComponentLink6URL: https://www.mouser.es/ProductDetail/Texas-Instruments/SA555D?qs=gb35HGp1gQJkvy2FEVqR%2Fw%3D%3D
footprint Timer_SA555 (SOIC, 8-Leads, Body 4,90x3,90mm, Pitch 1,27mm, IPC Medium Density)
pins: 1 GND, 2 ~{TRIG} (in), 3 OUT (out), 4 ~{RST} (in), 5 CVOLT, 6 THR (in), 7 DIS, 8 VCC

## Transceiver CAN MCP2551-I/SN
designator U*, comment MCP2551-I/SN
High-Speed CAN Transceiver; Supplier 1: Arrow Electronics; Supplier Part Number 1: MCP2551-I/SN
footprint MCHP-SN8_V (SOIC, 8-Leads, Body 4.9x3.9mm, Pitch 1.27mm)
pins: 1 TXD (in), 2 VSS, 3 VDD, 4 RXD (out), 5 VREF, 6 CANL, 7 CANH, 8 RS

## Transceiver_CAN
designator U?, comment MCP2561-H/SN  (value not drawn)
CAN Transceiver, 4.5 to 5.5V, 70mA, -40 to 150C, SOIC-8, RoHS; Manufacturer: Digi-Key; Manufacturer part: Microchip; Min Supply Voltage: 4.5V; Data Rate: 1Mbps; Operating Supply Voltage: 5V; Nominal Supply Current: 75mA; Number of Transceivers: 1; Slew Rate: 8.5V/µs; Propagation Delay: 125ns; .Creator: GP; RoHS: Yes; Mount: SMD; Case/Package: SOIC; Number of Pins: 8; Min Operating Temperature: -40°C; Max Operating Temperature: 85°C; Max Supply Voltage: 5.5V; Packaging: Rail/Tube; Interface: CAN; Number of Transmit Buffers: 1; Number of Receive Buffers: 1; Max Supply Current: 75mA; Number of Drivers: 1; Number of Receivers: 1; REACH SVHC: No SVHC; ComponentLink1URL: https://pdf1.alldatasheet.com/datasheet-pdf/view/514790/MICROCHIP/MCP2561.html; ComponentLink1Description: Datasheet; Category: Transceiver CAN; ComponentLink2Description: Where buy it; ComponentLink2URL: *; Supplier 1: Digi-Key; Manufacturer Part Number: MCP2561-H/SN; Pricing 1: 1=1,17000, 25=0,96480, 100=0,90000 (USD); Package Quantity: 100; Turn-On Delay Time: 125ns; Radiation Hardening: No; RoHS Compliant: Yes; ComponentLink3URL: https://datasheet.ciiva.com/18624/25167b-18624813.pdf?src-supplier=Digi-Key; ComponentLink3Description: https://datasheet.ciiva.com/18624/25167b-18624813.pdf?src-supplier=Digi-Key; Supplier Part Number 1: MCP2561-H/SN-ND
footprint Transceiver_CAN (SOIC, 8-Leads, Body 4,90x3,90mm, Pitch 1,27mm, IPC Low Density)
pins: 1 TXD (io), 2 VSS (power), 3 VDD (power), 4 RXD (io), 5 SPLIT, 6 CANL (io), 7 CANH (io), 8 STBY

## Transceiver_CAN_ISO1050
designator U?, comment ISO1050DW
Isolated 5-V CAN transceiver 16-SOIC -55 to 105; Manufacturer 1: Texas Instruments; Data Rate: 1Mbps; Number of Transceivers: 1; Propagation Delay: 74ns; Min Supply Voltage: 3V; Max Supply Voltage: 5.5V; Working Voltage: 1.2V; Polarity: Unidirectional; Operating Supply Current: 2mA; Max Supply Current: 73mA; .Creator: DR; ComponentLink1URL: https://datasheet.ciiva.com/22630/1719733-22630777.pdf?src-supplier=Element14; ComponentLink1Description: Datasheet; ComponentLink2Description: Where buy it; ComponentLink2URL: Try again in 2023; Supplier 1: Arrow Electronics; Manufacturer Part Number 1: ISO1050DW; RoHS: Yes; Category: Interface ICs; Stock 1: 60; Pricing 1: 1=4,02740 (USD); Case/Package: SOIC; Number of Pins: 16; Contact Plating: Gold; Weight: 0.019312oz; Min Operating Temperature: -55°C; Max Operating Temperature: 105°C; Packaging: Bulk; Package Quantity: 40; Number of Channels: 1; Number of Drivers: 1; Series: -; Number of Transmit Buffers: 1; Number of Receive Buffers: 1; Length: 10.5mm; Width: 7.6mm; Height: 2.35mm; Radiation Hardening: No; Lead Free: Lead Free; RoHS Compliant: Yes; REACH SVHC: No SVHC; ComponentLink3URL: https://datasheet.ciiva.com/22630/1719733-22630777.pdf?src-supplier=Element14; ComponentLink3Description: https://datasheet.ciiva.com/22630/1719733-22630777.pdf?src-supplier=Element14; ComponentLink4URL: https://datasheet.ciiva.com/26830/iso1050dw-26830433.pdf?src-supplier=IIIC; ComponentLink4Description: https://datasheet.ciiva.com/26830/iso1050dw-26830433.pdf?src-supplier=IIIC; ComponentLink5URL: https://datasheet.ciiva.com/1772/iso1050-1772965.pdf?src-supplier=Digi-Key; ComponentLink5Description: https://datasheet.ciiva.com/1772/iso1050-1772965.pdf?src-supplier=Digi-Key; Supplier Part Number 1: ISO1050DW
footprint TRANSCEIVER_CAN_SOIC16 (SOIC, 16-Leads, Body 10,30x7,50mm, Pitch 1,27mm, IPC Medium Density)
pins: 1 VDD_1 (oc), 2 GND_1 (power), 3 RXD (io), 4 NC (oe), 5 NC, 6 TXD (io), 7 GND_1, 8 GND_1, 9 GND_2, 10 GND_2, 11 NC, 12 CANL (io), 13 CANH (io), 14 NC (oc), 15 GND_2, 16 VDD_2
text: Galvanic isolation

## Transceiver_CAN_TJA1052IT/2Y
designator U?, comment TJA1052IT/2Y
TJA1052I Series 5.25 V 5 Mbps SMT High-Speed CAN Transceiver - SOIC-16; Manufacturer 1: NXP Semiconductors; Data Rate: 1Mbps; Max Supply Voltage: 5.25V; Number of Transceivers: 1; .Creator: DR; ComponentLink1Description: Datasheet; ComponentLink2Description: Where buy it; Supplier 1: Digi-Key; RoHS: Yes; Category: Interface ICs; Pricing 1: 1=6,84000 (USD); Case/Package: SOIC; Packaging: Tape and Reel; Radiation Hardening: No; Lead Free: Lead Free; ComponentLink3URL: https://datasheet.ciiva.com/29892/tja1052i-29892070.pdf?src-supplier=Avnet; ComponentLink3Description: https://datasheet.ciiva.com/29892/tja1052i-29892070.pdf?src-supplier=Avnet; Supplier Part Number 1: 568-13278-6-ND; Manufacturer Part Number 1: TJA1052IT/2Y
footprint TRANSCEIVER_CAN_SOIC16 (SOIC, 16-Leads, Body 10,30x7,50mm, Pitch 1,27mm, IPC Medium Density)
pins: 1 VDD_1 (oc), 2 GND_1 (power), 3 TXD (io), 4 NC (oe), 5 NC, 6 RXD (io), 7 GND_1, 8 GND_1, 9 GND_2, 10 GND_2, 11 VDD_2, 12 CANL (io), 13 CANH (io), 14 STB (oc), 15 GND_2 (oc), 16 VDD_2
text: Galvanic isolation

## Transceiver_I2C/UART
designator U?, comment MCP2221A
MCP2221A Series 5.5V 13mA USB 2.0 I2C UART Protocol Converter with GPIO -SOIC-14; Manufacturer: Microchip; Manufacturer Part Number: MCP2221A-I/SL; Interface: I2C,UART; .Creator: GP; Supplier 1: RSComponents; RoHS: Yes; Category: Transceiver USB-UART/I2C; Stock 1: 72; Pricing 1: 57=1,91800, 114=1,75000 (USD); Case/Package: SOIC; Min Operating Temperature: -40°C; Max Operating Temperature: 85°C; Packaging: Rail/Tube; Operating Supply Current: 13mA; ComponentLink1URL: http://www.farnell.com/datasheets/2182406.pdf?src-supplier=Farnell; ComponentLink1Description: http://www.farnell.com/datasheets/2182406.pdf?src-supplier=Farnell; ComponentLink2URL: http://www.microchip.com/mymicrochip/filehandler.aspx?ddocname=en586514&src-supplier=Digi-Key; ComponentLink2Description: http://www.microchip.com/mymicrochip/filehandler.aspx?ddocname=en586514&src-supplier=Digi-Key; ComponentLink3URL: http://www.farnell.com/datasheets/2182406.pdf?src-supplier=Newark; ComponentLink3Description: http://www.farnell.com/datasheets/2182406.pdf?src-supplier=Newark; Supplier Part Number 1: 1717758
footprint Transceiver_I2C/UART (SOIC, 14-Leads, Body 8,65x3,90mm, Pitch 1,27mm, IPC Low Density)
pins: 1 VDD (power), 2 GP0 (io), 3 GP1 (io), 4 ~{RST}, 5 URx, 6 UTx, 7 GP2, 8 GP3 (io), 9 SDA, 10 SCL, 11 VUSB (power), 12 D-, 13 D+, 14 VSS (power)

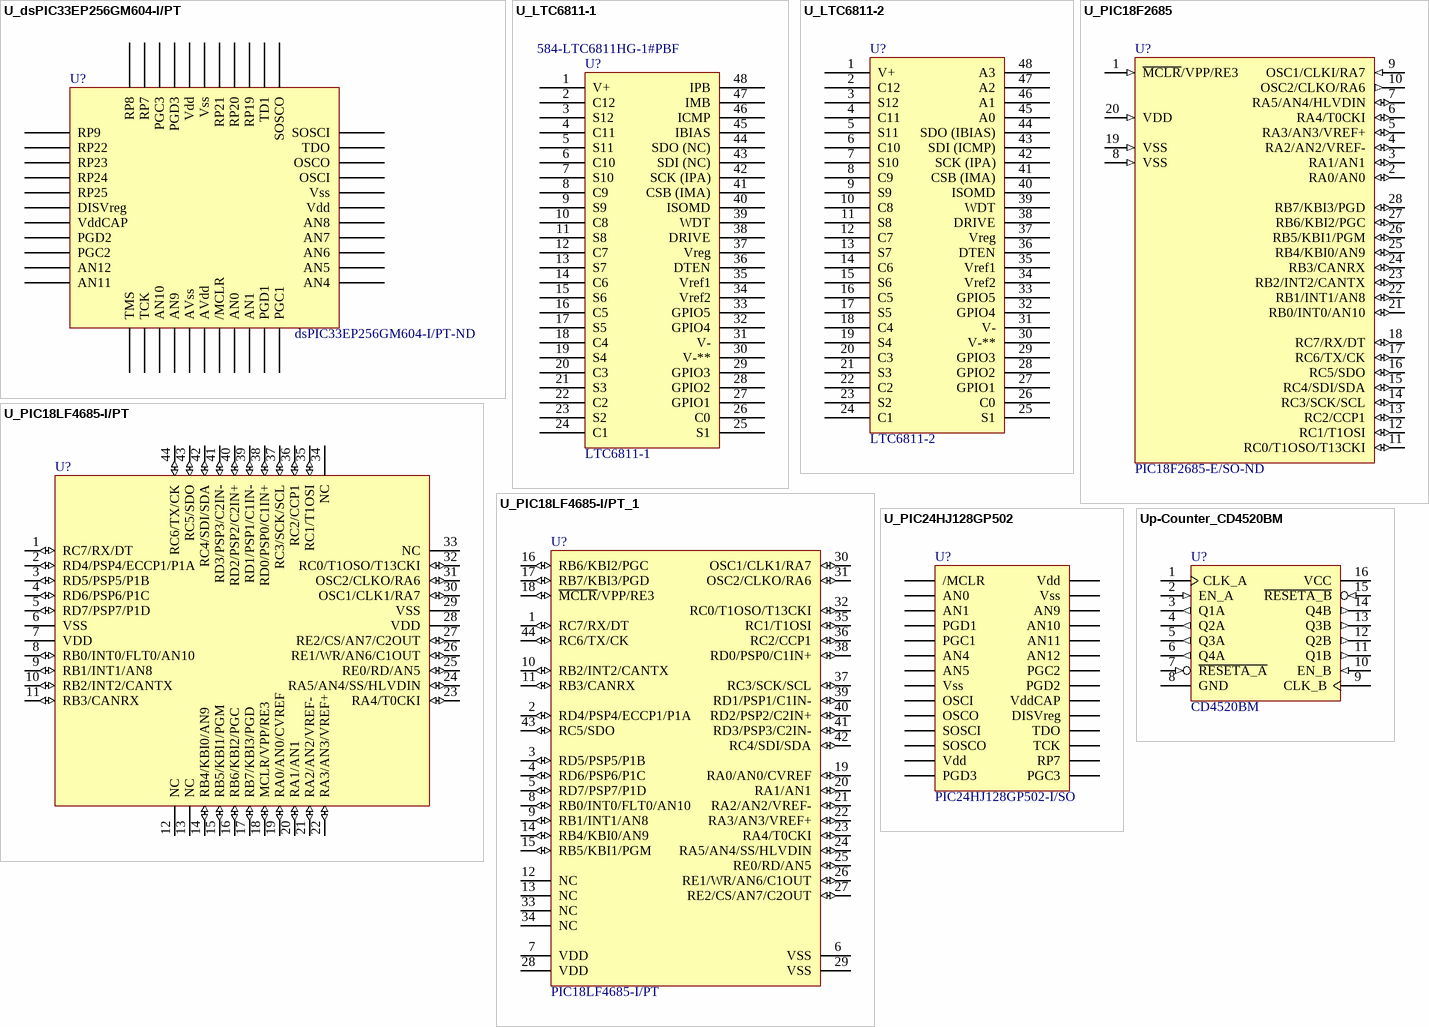
[diagram p1: symbols U_dsPIC33EP256GM604-I/PT to Up-Counter_CD4520BM]

## U_dsPIC33EP256GM604-I/PT
designator U?, comment Supplier Part Number 1: dsPIC33EP256GM604-I/PT-ND  (hidden comment: dsPIC33EP256GM604-I/PT)
16-bit MCU/DSC, 256 KB, 32768 Bytes, 70 MHz, 3 to 3.6V, TQFP-44, RoHS; Manufacturer 1: Microchip; Number of ADC Channels: 18; RAM Size: 32KB; .Creator: DR; ComponentLink1Description: Datasheet; ComponentLink1URL: https://datasheet.ciiva.com/18628/dspic33epxxxgm3xx6xx7xxdatasheet-18628712.pdf?src-supplier=Digi-Key; ComponentLink2Description: Where buy it; ComponentLink2URL: *; Supplier 1: Digi-Key; RoHS: Yes; Category: Microcontrollers; Pricing 1: 160=6,16500 (USD); Case/Package: TQFP; Number of Pins: 44; Min Operating Temperature: -40°C; Max Operating Temperature: 85°C; Package Quantity: 160; Packaging: Tray; RoHS Compliant: Yes; ComponentLink3URL: https://datasheet.ciiva.com/18628/dspic33epxxxgm3xx6xx7xxdatasheet-18628712.pdf?src-supplier=Digi-Key; ComponentLink3Description: https://datasheet.ciiva.com/18628/dspic33epxxxgm3xx6xx7xxdatasheet-18628712.pdf?src-supplier=Digi-Key; Manufacturer Part Number 1: dsPIC33EP256GM604-I/PT
footprint U_dsPIC33EP256GM604-I/PT (TQFP, 44-Leads, Body 10,00x10,00mm, Pitch 0,80mm, IPC Medium Density)
pins: 1 RP9, 2 RP22, 3 RP23, 4 RP24, 5 RP25, 6 DISVreg, 7 VddCAP, 8 PGD2, 9 PGC2, 10 AN12, 11 AN11, 12 TMS, 13 TCK, 14 AN10, 15 AN9, 16 AVss, 17 AVdd, 18 /MCLR, 19 AN0, 20 AN1, 21 PGD1, 22 PGC1, 23 AN4, 24 AN5, 25 AN6, 26 AN7, 27 AN8, 28 Vdd, 29 Vss, 30 OSCI, 31 OSCO, 32 TDO, 33 SOSCI, 34 SOSCO, 35 TD1, 36 RP19, 37 RP20, 38 RP21, 39 Vss, 40 Vdd, 41 PGD3, 42 PGC3, 43 RP7, 44 RP8